# EAGLE library part AD5290YRMZ10 (library 029000100  -  gKEagleLibrary)
Compact +30 V / ±15 V 256-Position Digital Potentiometer
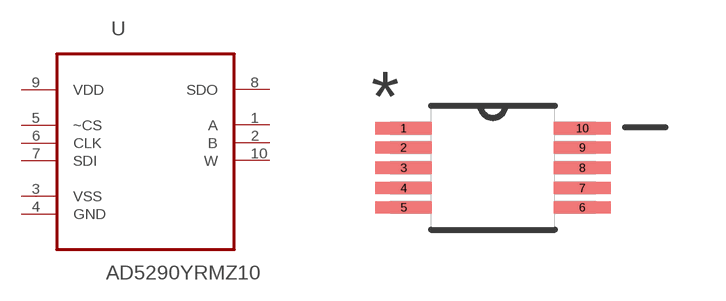
[diagram p26: symbol with the pads of SOP50P490X110-10N; footprint SOP50P490X110-10N]

Designator prefix U

## AD5290YRMZ10 (MPN: AD5290YRMZ10; OC_FARNELL: 1274278; OC_NEWARK: 19M0798; PACKAGE: MSOP-10; SUPPLIER: Analog Devices)  [SOP50P490X110-10N]
1  A  pas
2  B  pas
3  VSS  pwr
4  GND  pas
5  ~CS  in
6  CLK  in
7  SDI  in
8  SDO  out
9  VDD  pwr
10  W  pas

## Footprint SOP50P490X110-10N (pad centres in mm)
smd 1.422 x 0.305: 1 -2.235,0.991; 2 -2.235,0.508; 3 -2.235,0; 4 -2.235,-0.508; 5 -2.235,-0.991; 6 2.235,-0.991; 7 2.235,-0.508; 8 2.235,0; 9 2.235,0.508; 10 2.235,0.991